# Altium schematic symbol library 1939870-1.SchLib: 1 symbol
Pins are listed as number, name and electrical type; pins without a type are passive.

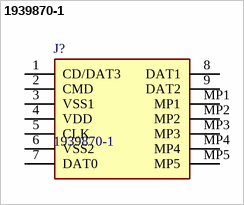
[diagram p0: symbol 1939870-1]

## 1939870-1
designator J?
Body Features: Primary Product Color Black | Configuration Features: Number of Rows 1 | PCB Mount Orientation Right Angle | Number of Positions 9 | Contact Features: Contact Mating Area Plating Material Thickness .2  .5 MICM | Contact Layout Inline | Contact Current Rating (Max) .5 AMP | Contact Underplating Material Nickel | Contact Mating Area Plating Material Gold | Contact Base Material Copper Alloy | PCB Contact Termination Area Plating Material Tin | Dimensions: Profile Height from PCB .116 INCH |; Manufacturer_Name: TE Connectivity; Geometry.Height: 3.7mm; Mouser Part Number: 571-1939870-1; Mouser Price/Stock: https://www.mouser.co.uk/ProductDetail/TE-Connectivity/1939870-1?qs=TL6PIybY3BOt2514n%2FsFbQ%3D%3D; Manufacturer_Part_Number: 1939870-1; Datasheet Link: https://www.te.com/commerce/DocumentDelivery/DDEController?Action=showdoc&DocId=Customer+Drawing%7F1939870%7FD%7Fpdf%7FJapanese%7FJPN_CD_1939870_D.pdf%7F1939870-1
footprint 19398701
pins: 1 CD/DAT3, 2 CMD, 3 VSS1, 4 VDD, 5 CLK, 6 VSS2, 7 DAT0, 8 DAT1, 9 DAT2, MP1, MP2, MP3, MP4, MP5